# Altium schematic symbol library Interface_CurrentLoop.SchLib: 3 symbols
Pins are listed as number, name and electrical type; pins without a type are passive.

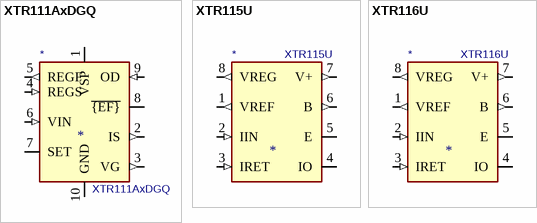
[diagram p0: symbols XTR111AxDGQ to XTR116U]

## XTR111AxDGQ
designator *  value XTR111AxDGQ
ki_keywords: 0-20mA 4-20mA Current Loop Transmitter Voltage To Current; ki_description: 0-20mA/4-20mA Current Loop Transmitter, Precision Voltage-To-Current, MSOP-10; ki_fp_filters: MSOP*1EP*3x3mm*P0.5mm*; Footprint: Package_SO:MSOP-10-1EP_3x3mm_P0.5mm_EP2.2x3.1mm_Mask1.83x1.89mm_ThermalVias; Supplier: https://www.ti.com/lit/ds/symlink/xtr111.pdf
footprint MSOP-10-1EP_3x3mm_P0.5mm_EP2.2x3.1mm_Mask1.83x1.89mm_ThermalVias
pins: 1 VSP (power), 2 IS (out), 3 VG (out), 4 REGS (in), 5 REGF (out), 6 VIN (in), 7 SET, 8 ~{{EF}} (oc), 9 OD (in), 10 GND (power), 11 GND (power) hidden

## XTR115U
designator *  value XTR115U
ki_keywords: 4-20mA Current Loop Transmitter; ki_description: 4-20mA Current Loop Transmitter, VREF 2.5V, SO-8; ki_fp_filters: SOIC*3.9x4.9mm*P1.27mm*; Footprint: Package_SO:SOIC-8_3.9x4.9mm_P1.27mm; Supplier: http://www.ti.com/lit/ds/symlink/xtr115.pdf
footprint SOIC-8_3.9x4.9mm_P1.27mm
pins: 1 VREF (out), 2 IIN (in), 3 IRET (in), 4 IO, 5 E, 6 B (out), 7 V+ (out), 8 VREG (out)

## XTR116U
designator *  value XTR116U
ki_keywords: 4-20mA Current Loop Transmitter; ki_description: 4-20mA Current Loop Transmitter, VREF 4.096V, SO-8; ki_fp_filters: SOIC*3.9x4.9mm*P1.27mm*; Footprint: Package_SO:SOIC-8_3.9x4.9mm_P1.27mm; Supplier: http://www.ti.com/lit/ds/symlink/xtr115.pdf
footprint SOIC-8_3.9x4.9mm_P1.27mm
pins: 1 VREF (out), 2 IIN (in), 3 IRET (in), 4 IO, 5 E, 6 B (out), 7 V+ (out), 8 VREG (out)